# Altium footprint library 电流测量仪仪主控板原理图PCB封装库.PcbLib: 34 footprints (part 3 of 3)
Each footprint in its own frame and in the unit in brackets; x right, y up, seen from the top. Pads: shape width x height; smd on the part's side, far side on the other; paste and mask are expansions set on the pad; w line width, h text height; cw(c..) or ccw(c..) is an arc to the next point about the centre after c.
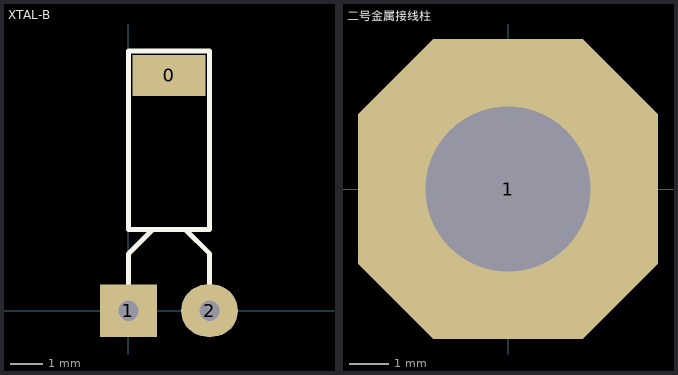
[diagram p2: the footprints below, top view; thin cyan lines are the x and y axes]

## XTAL-B [mil] "32768Hz"
height 196.85
pads (3):
  rect 90x50 smd: 0(50.01,290)
  rect 70x64.96 hole 25: 1(0,0)
  oval 70x64.96 hole 25: 2(100,0)
Top Overlay:
  lines w6: 0,30 0.01,70 30.01,100 ; 60.01,100 70.01,100 100,70 100,30 ; 0,100 0.01,320 100,320 100.01,100 0,100

## 二号金属接线柱 [mil]
height 214.96
pads (1):
  oct 300x300 hole 165: 1(0,0)